# Altium footprint library power2pix_pcb_lib.PcbLib: 14 footprints
Each footprint in its own frame and in the unit in brackets; x right, y up, seen from the top. Pads: shape width x height; smd on the part's side, far side on the other; paste and mask are expansions set on the pad; w line width, h text height; cw(c..) or ccw(c..) is an arc to the next point about the centre after c.
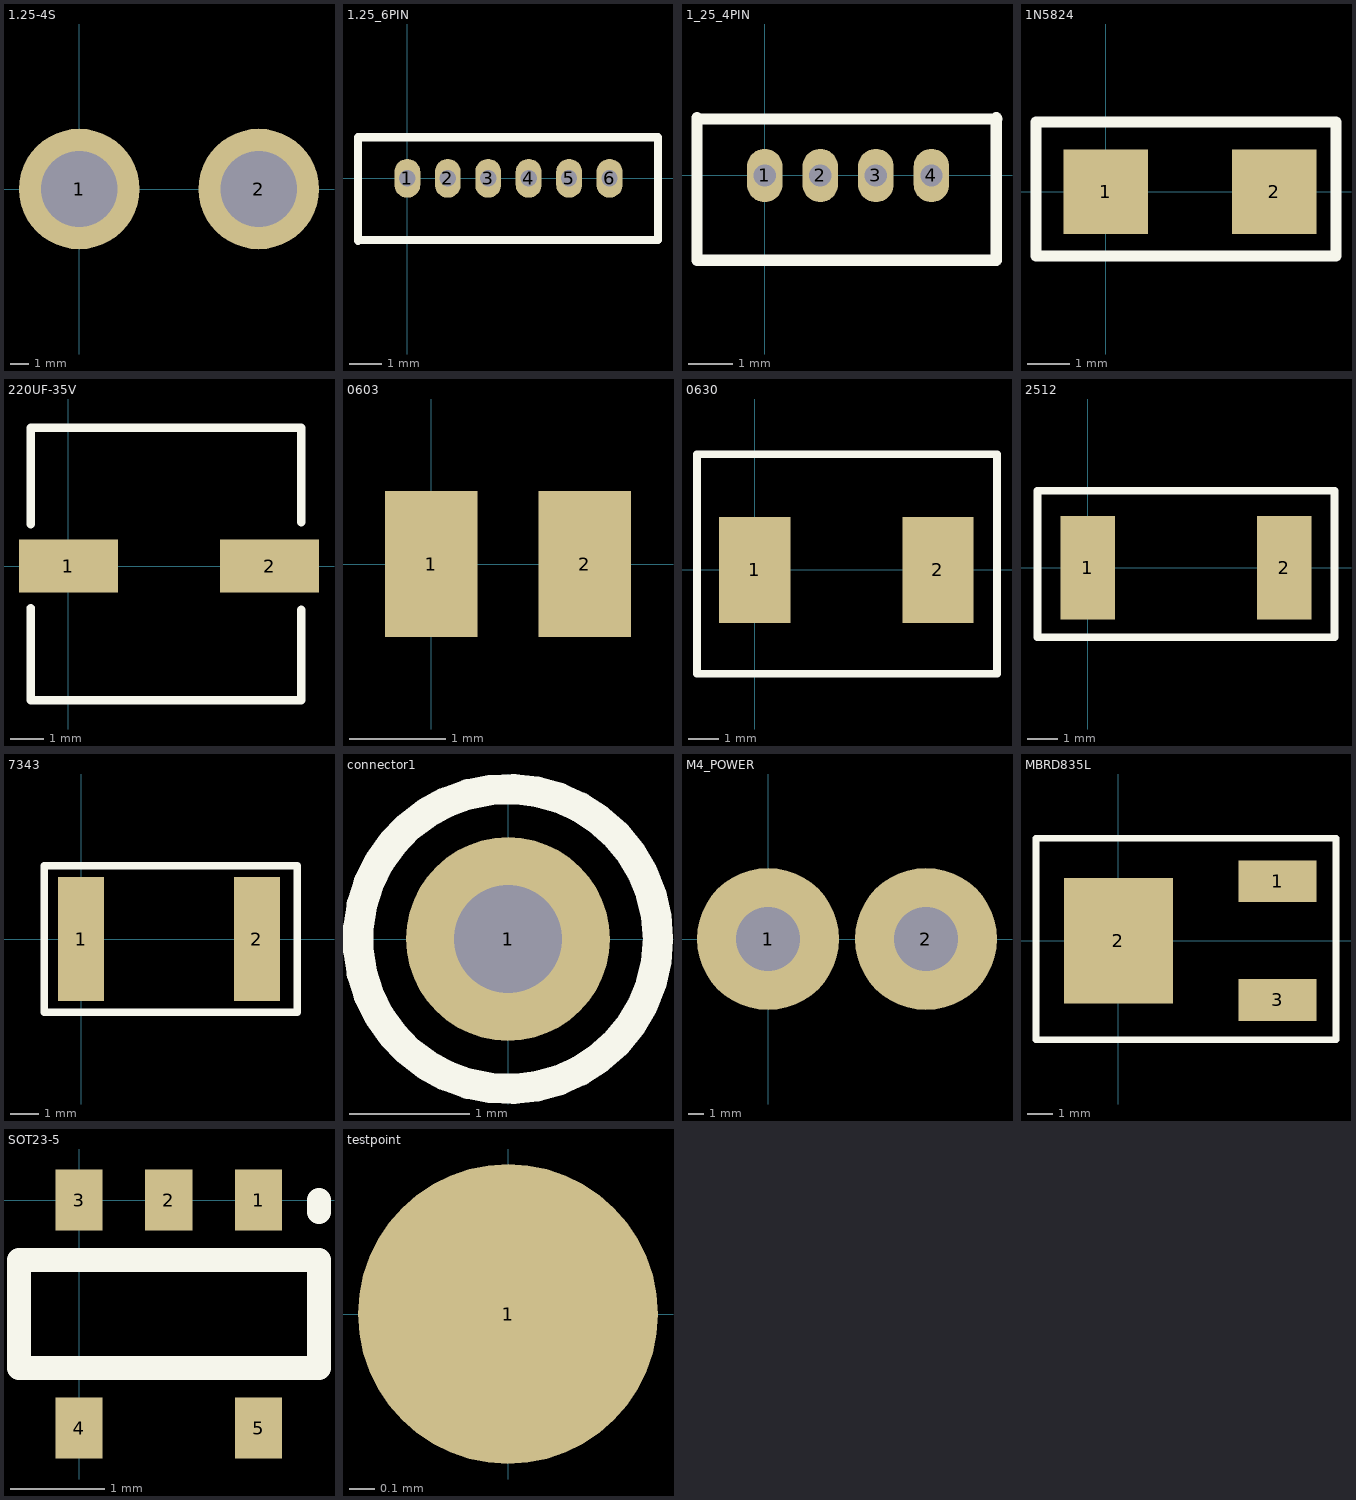
[diagram p0: the footprints below, top view; thin cyan lines are the x and y axes]

## 1.25-4S [mm]
pads (2):
  round 6.4 hole 4.05: 1(0,0) 2(9.525,0)

## 1.25_6PIN [mm]
pads (6):
  oval 0.8x1.2 hole 0.5: 1(0,0) 2(1.25,0) 3(2.5,0) 4(3.75,0) 5(5,0) 6(6.25,0)
Top Overlay:
  lines w0.254: -1.524,-1.93 -1.524,1.27 7.747,1.27 7.747,-1.905 -1.503,-1.905

## 1_25_4PIN [mm]
pads (4):
  oval 0.8x1.2 hole 0.5: 1(0,0) 2(1.25,0) 3(2.5,0) 4(3.75,0)
Top Overlay:
  lines w0.254: -1.524,1.27 5.226,1.27 ; -1.524,1.295 -1.524,-1.905 5.207,-1.905 5.207,1.295

## 1N5824 [mm]
pads (2):
  rect 2x2 smd: 1(0,0) 2(4,0)
Top Overlay:
  lines w0.254: -1.651,-1.524 -1.651,1.651 5.461,1.651 5.461,-1.524 -1.651,-1.524

## 220UF-35V [mm]
pads (2):
  rect 3x1.6 smd: 1(0,0) 2(6.096,0)
Top Overlay:
  lines w0.254: -1.143,-1.27 -1.143,-4.064 7.057,-4.064 7.057,-1.325 ; -1.143,1.27 -1.143,4.191 7.057,4.191 7.057,1.325

## 0603 [mm]
pads (2):
  rect 0.965x1.524 smd: 1(0,0) 2(1.6,0)

## 0630 [mm]
pads (2):
  rect 2.35x3.5 smd: 1(0,0) 2(6.05,0)
Top Overlay:
  lines w0.254: -1.905,-3.429 -1.905,3.81 8.001,3.81 8.001,-3.429 -1.905,-3.429

## 2512 [mm]
pads (2):
  rect 1.8x3.4 smd: 1(0,0) 2(6.48,0)
Top Overlay:
  lines w0.254: -1.651,-2.286 8.128,-2.286 8.128,2.54 -1.651,2.54 -1.651,-2.286

## 7343 [mm]
pads (2):
  rect 1.6x4.3 smd: 1(0,0) 2(6.096,0)
Top Overlay:
  lines w0.254: -1.27,-2.54 -1.27,2.54 -1.016,2.54 7.493,2.54 7.493,-2.54 -1.27,-2.54

## connector1 [mm]
pads (1):
  round 1.7 hole 0.9: 1(0,0)
Top Overlay:
  circle w0.254: c0,0 r1.251

## M4_POWER [mm]
pads (2):
  round 9 hole 4.05: 1(0,0) 2(10,0)

## MBRD835L [mm]
pads (3):
  rect 3x1.6 smd: 1(6.135,2.286) 3(6.135,-2.286)
  rect 4.191x4.826 smd: 2(0,0)
Top Overlay:
  lines w0.254: -3.175,-3.81 -3.175,3.937 8.382,3.937 8.382,-3.81 -3.175,-3.81

## SOT23-5 [mm]
pads (5):
  rect 0.5x0.65 smd: 1(1.9,0) 2(0.95,0) 3(0,0) 4(0,-2.413) 5(1.9,-2.413)
Top Overlay:
  lines w0.254: 2.54,-0.127 2.54,0 ; -0.635,-1.778 2.54,-1.778 2.54,-0.635 -0.635,-0.635 -0.635,-1.778

## testpoint [mm]
pads (1):
  round 1.2 smd: 1(0,0)